# EAGLE library part GPS_ST22 (library debauer_modules)
PIN HEADER
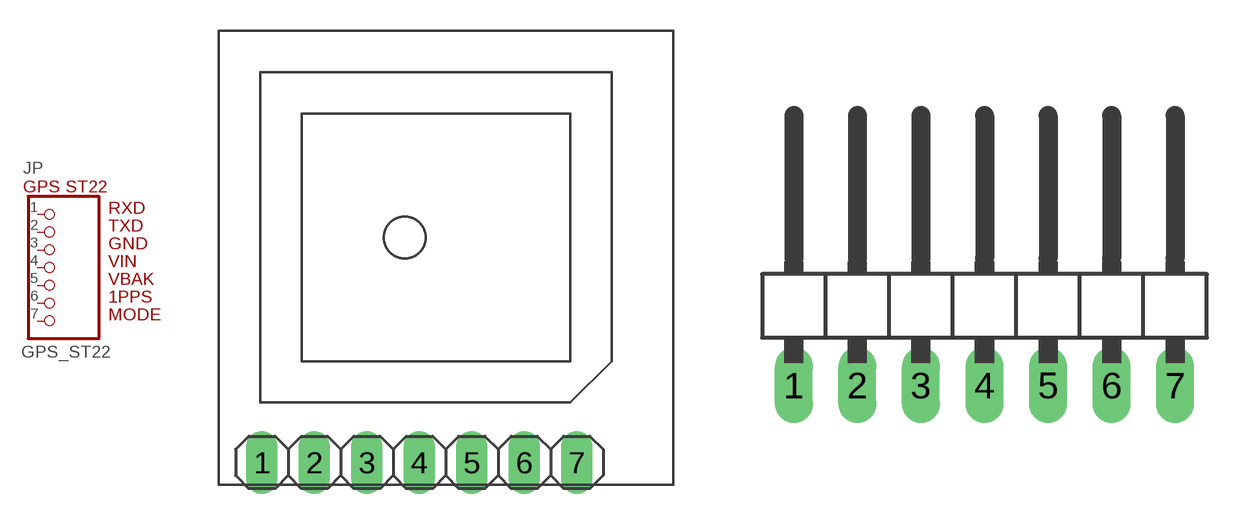
[diagram p11: symbol with the pads of 1X07; footprints 1X07, 1X07/90]

Designator prefix JP

## GPS_ST22  [1X07]
1  1  pas
2  2  pas
3  3  pas
4  4  pas
5  5  pas
6  6  pas
7  7  pas

## GPS_ST22/90  [1X07/90]
Pads as for 1X07

## Footprint 1X07 (pad centres in mm)
PIN HEADER
drill 1.016 long: 1 -7.92,0.1; 2 -5.38,0.1; 3 -2.84,0.1; 4 -0.3,0.1; 5 2.24,0.1; 6 4.78,0.1; 7 7.32,0.1

## Footprint 1X07/90 (pad centres in mm)
PIN HEADER
drill 1.016 long: 1 -7.62,-3.81; 2 -5.08,-3.81; 3 -2.54,-3.81; 4 0,-3.81; 5 2.54,-3.81; 6 5.08,-3.81; 7 7.62,-3.81